# Altium footprint library IPC-7355 QFP_Sq_80P_Side_L.PcbLib: 5 footprints
Each footprint in its own frame and in the unit in brackets; x right, y up, seen from the top. Pads: shape width x height; smd on the part's side, far side on the other; paste and mask are expansions set on the pad; w line width, h text height; cw(c..) or ccw(c..) is an arc to the next point about the centre after c.
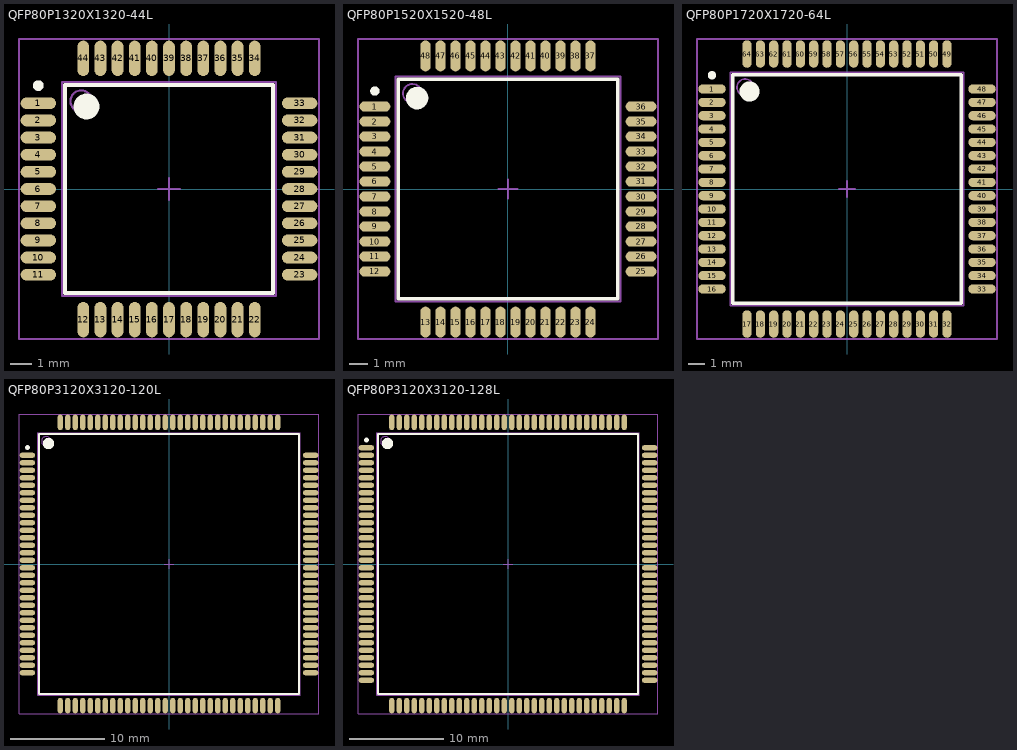
[diagram p0: the footprints below, top view; thin cyan lines are the x and y axes]

## QFP80P1320X1320-44L [mm] "QFP, 44-Leads, Body 10x10mm, Pitch 0.8mm, IPC High Density"
height 2.45
pads (44):
  oval 1.65x0.55 smd: 1(-6.1,4) 2(-6.1,3.2) 3(-6.1,2.4) 4(-6.1,1.6) 5(-6.1,0.8) 6(-6.1,0) 7(-6.1,-0.8) 8(-6.1,-1.6) 9(-6.1,-2.4) 10(-6.1,-3.2) 11(-6.1,-4) 23(6.1,-4) 24(6.1,-3.2) 25(6.1,-2.4) 26(6.1,-1.6) 27(6.1,-0.8) 28(6.1,0) 29(6.1,0.8) 30(6.1,1.6) 31(6.1,2.4) 32(6.1,3.2) 33(6.1,4)
  oval 0.55x1.65 smd: 12(-4,-6.1) 13(-3.2,-6.1) 14(-2.4,-6.1) 15(-1.6,-6.1) 16(-0.8,-6.1) 17(0,-6.1) 18(0.8,-6.1) 19(1.6,-6.1) 20(2.4,-6.1) 21(3.2,-6.1) 22(4,-6.1) 34(4,6.1) 35(3.2,6.1) 36(2.4,6.1) 37(1.6,6.1) 38(0.8,6.1) 39(0,6.1) 40(-0.8,6.1) 41(-1.6,6.1) 42(-2.4,6.1) 43(-3.2,6.1) 44(-4,6.1)
Top Overlay:
  circle w0.6: c-3.85,3.85 r0.3
  circle w0.25: c-6.1,4.825 r0.125
  lines w0.2: -4.85,-4.85 4.85,-4.85 4.85,4.85 -4.85,4.85 -4.85,-4.85
Mechanical 13:
  circle w0.1: c-4.1,4.1 r0.5
  lines w0.1: -5,-5 5,-5 5,5 -5,5 -5,-5
Mechanical 15:
  lines w0.1: -0.5,0 0.5,0 ; 0,-0.5 0,0.5 ; -7,-7 7,-7 7,7 -7,7 -7,-7
3D body: height 2.45, standoff 0, extent -5,-5 5,5

## QFP80P1520X1520-48L [mm] "QFP, 48-Leads, Body 12x12mm, Pitch 0.8mm, IPC High Density"
height 2.45
pads (48):
  oval 1.65x0.55 smd: 1(-7.1,4.4) 2(-7.1,3.6) 3(-7.1,2.8) 4(-7.1,2) 5(-7.1,1.2) 6(-7.1,0.4) 7(-7.1,-0.4) 8(-7.1,-1.2) 9(-7.1,-2) 10(-7.1,-2.8) 11(-7.1,-3.6) 12(-7.1,-4.4) 25(7.1,-4.4) 26(7.1,-3.6) 27(7.1,-2.8) 28(7.1,-2) 29(7.1,-1.2) 30(7.1,-0.4) 31(7.1,0.4) 32(7.1,1.2) 33(7.1,2) 34(7.1,2.8) 35(7.1,3.6) 36(7.1,4.4)
  oval 0.55x1.65 smd: 13(-4.4,-7.1) 14(-3.6,-7.1) 15(-2.8,-7.1) 16(-2,-7.1) 17(-1.2,-7.1) 18(-0.4,-7.1) 19(0.4,-7.1) 20(1.2,-7.1) 21(2,-7.1) 22(2.8,-7.1) 23(3.6,-7.1) 24(4.4,-7.1) 37(4.4,7.1) 38(3.6,7.1) 39(2.8,7.1) 40(2,7.1) 41(1.2,7.1) 42(0.4,7.1) 43(-0.4,7.1) 44(-1.2,7.1) 45(-2,7.1) 46(-2.8,7.1) 47(-3.6,7.1) 48(-4.4,7.1)
Top Overlay:
  circle w0.6: c-4.85,4.85 r0.3
  circle w0.25: c-7.1,5.225 r0.125
  lines w0.2: -5.85,-5.85 5.85,-5.85 5.85,5.85 -5.85,5.85 -5.85,-5.85
Mechanical 13:
  circle w0.1: c-5.1,5.1 r0.5
  lines w0.1: -6,-6 6,-6 6,6 -6,6 -6,-6
Mechanical 15:
  lines w0.1: -0.5,0 0.5,0 ; 0,-0.5 0,0.5 ; -8,-8 8,-8 8,8 -8,8 -8,-8
3D body: height 2.45, standoff 0, extent -6,-6 6,6

## QFP80P1720X1720-64L [mm] "QFP, 64-Leads, Body 14x14mm, Pitch 0.8mm, IPC High Density"
height 2.45
pads (64):
  oval 1.65x0.55 smd: 1(-8.1,6) 2(-8.1,5.2) 3(-8.1,4.4) 4(-8.1,3.6) 5(-8.1,2.8) 6(-8.1,2) 7(-8.1,1.2) 8(-8.1,0.4) 9(-8.1,-0.4) 10(-8.1,-1.2) 11(-8.1,-2) 12(-8.1,-2.8) 13(-8.1,-3.6) 14(-8.1,-4.4) 15(-8.1,-5.2) 16(-8.1,-6) 33(8.1,-6) 34(8.1,-5.2) 35(8.1,-4.4) 36(8.1,-3.6) 37(8.1,-2.8) 38(8.1,-2) 39(8.1,-1.2) 40(8.1,-0.4) 41(8.1,0.4) 42(8.1,1.2) 43(8.1,2) 44(8.1,2.8) 45(8.1,3.6) 46(8.1,4.4) 47(8.1,5.2) 48(8.1,6)
  oval 0.55x1.65 smd: 17(-6,-8.1) 18(-5.2,-8.1) 19(-4.4,-8.1) 20(-3.6,-8.1) 21(-2.8,-8.1) 22(-2,-8.1) 23(-1.2,-8.1) 24(-0.4,-8.1) 25(0.4,-8.1) 26(1.2,-8.1) 27(2,-8.1) 28(2.8,-8.1) 29(3.6,-8.1) 30(4.4,-8.1) 31(5.2,-8.1) 32(6,-8.1) 49(6,8.1) 50(5.2,8.1) 51(4.4,8.1) 52(3.6,8.1) 53(2.8,8.1) 54(2,8.1) 55(1.2,8.1) 56(0.4,8.1) 57(-0.4,8.1) 58(-1.2,8.1) 59(-2,8.1) 60(-2.8,8.1) 61(-3.6,8.1) 62(-4.4,8.1) 63(-5.2,8.1) 64(-6,8.1)
Top Overlay:
  circle w0.6: c-5.85,5.85 r0.3
  circle w0.25: c-8.1,6.825 r0.125
  lines w0.2: -6.85,-6.85 6.85,-6.85 6.85,6.85 -6.85,6.85 -6.85,-6.85
Mechanical 13:
  circle w0.1: c-6.1,6.1 r0.5
  lines w0.1: -7,-7 7,-7 7,7 -7,7 -7,-7
Mechanical 15:
  lines w0.1: -0.5,0 0.5,0 ; 0,-0.5 0,0.5 ; -9,-9 9,-9 9,9 -9,9 -9,-9
3D body: height 2.45, standoff 0, extent -7,-7 7,7

## QFP80P3120X3120-120L [mm] "QFP, 120-Leads, Body 28x28mm, Pitch 0.8mm, IPC High Density"
height 3.75
pads (120):
  oval 1.65x0.55 smd: 1(-15.1,11.6) 2(-15.1,10.8) 3(-15.1,10) 4(-15.1,9.2) 5(-15.1,8.4) 6(-15.1,7.6) 7(-15.1,6.8) 8(-15.1,6) 9(-15.1,5.2) 10(-15.1,4.4) 11(-15.1,3.6) 12(-15.1,2.8) 13(-15.1,2) 14(-15.1,1.2) 15(-15.1,0.4) 16(-15.1,-0.4) 17(-15.1,-1.2) 18(-15.1,-2) 19(-15.1,-2.8) 20(-15.1,-3.6) 21(-15.1,-4.4) 22(-15.1,-5.2) 23(-15.1,-6) 24(-15.1,-6.8) 25(-15.1,-7.6) 26(-15.1,-8.4) 27(-15.1,-9.2) 28(-15.1,-10) 29(-15.1,-10.8) 30(-15.1,-11.6) 61(15.1,-11.6) 62(15.1,-10.8) 63(15.1,-10) 64(15.1,-9.2) 65(15.1,-8.4) 66(15.1,-7.6) 67(15.1,-6.8) 68(15.1,-6) 69(15.1,-5.2) 70(15.1,-4.4) 71(15.1,-3.6) 72(15.1,-2.8) 73(15.1,-2) 74(15.1,-1.2) 75(15.1,-0.4) 76(15.1,0.4) 77(15.1,1.2) 78(15.1,2) 79(15.1,2.8) 80(15.1,3.6) 81(15.1,4.4) 82(15.1,5.2) 83(15.1,6) 84(15.1,6.8) 85(15.1,7.6) 86(15.1,8.4) 87(15.1,9.2) 88(15.1,10) 89(15.1,10.8) 90(15.1,11.6)
  oval 0.55x1.65 smd: 31(-11.6,-15.1) 32(-10.8,-15.1) 33(-10,-15.1) 34(-9.2,-15.1) 35(-8.4,-15.1) 36(-7.6,-15.1) 37(-6.8,-15.1) 38(-6,-15.1) 39(-5.2,-15.1) 40(-4.4,-15.1) 41(-3.6,-15.1) 42(-2.8,-15.1) 43(-2,-15.1) 44(-1.2,-15.1) 45(-0.4,-15.1) 46(0.4,-15.1) 47(1.2,-15.1) 48(2,-15.1) 49(2.8,-15.1) 50(3.6,-15.1) 51(4.4,-15.1) 52(5.2,-15.1) 53(6,-15.1) 54(6.8,-15.1) 55(7.6,-15.1) 56(8.4,-15.1) 57(9.2,-15.1) 58(10,-15.1) 59(10.8,-15.1) 60(11.6,-15.1) 91(11.6,15.1) 92(10.8,15.1) 93(10,15.1) 94(9.2,15.1) 95(8.4,15.1) 96(7.6,15.1) 97(6.8,15.1) 98(6,15.1) 99(5.2,15.1) 100(4.4,15.1) 101(3.6,15.1) 102(2.8,15.1) 103(2,15.1) 104(1.2,15.1) 105(0.4,15.1) 106(-0.4,15.1) 107(-1.2,15.1) 108(-2,15.1) 109(-2.8,15.1) 110(-3.6,15.1) 111(-4.4,15.1) 112(-5.2,15.1) 113(-6,15.1) 114(-6.8,15.1) 115(-7.6,15.1) 116(-8.4,15.1) 117(-9.2,15.1) 118(-10,15.1) 119(-10.8,15.1) 120(-11.6,15.1)
Top Overlay:
  circle w0.6: c-12.85,12.85 r0.3
  circle w0.25: c-15.1,12.425 r0.125
  lines w0.2: -13.85,-13.85 13.85,-13.85 13.85,13.85 -13.85,13.85 -13.85,-13.85
Mechanical 13:
  circle w0.1: c-13.1,13.1 r0.5
  lines w0.1: -14,-14 14,-14 14,14 -14,14 -14,-14
Mechanical 15:
  lines w0.1: -0.5,0 0.5,0 ; 0,-0.5 0,0.5 ; -16,-16 16,-16 16,16 -16,16 -16,-16
3D body: height 3.75, standoff 0, extent -14,-14 14,14

## QFP80P3120X3120-128L [mm] "QFP, 128-Leads, Body 28x28mm, Pitch 0.8mm, IPC High Density"
height 3.75
pads (128):
  oval 1.65x0.55 smd: 1(-15.1,12.4) 2(-15.1,11.6) 3(-15.1,10.8) 4(-15.1,10) 5(-15.1,9.2) 6(-15.1,8.4) 7(-15.1,7.6) 8(-15.1,6.8) 9(-15.1,6) 10(-15.1,5.2) 11(-15.1,4.4) 12(-15.1,3.6) 13(-15.1,2.8) 14(-15.1,2) 15(-15.1,1.2) 16(-15.1,0.4) 17(-15.1,-0.4) 18(-15.1,-1.2) 19(-15.1,-2) 20(-15.1,-2.8) 21(-15.1,-3.6) 22(-15.1,-4.4) 23(-15.1,-5.2) 24(-15.1,-6) 25(-15.1,-6.8) 26(-15.1,-7.6) 27(-15.1,-8.4) 28(-15.1,-9.2) 29(-15.1,-10) 30(-15.1,-10.8) 31(-15.1,-11.6) 32(-15.1,-12.4) 65(15.1,-12.4) 66(15.1,-11.6) 67(15.1,-10.8) 68(15.1,-10) 69(15.1,-9.2) 70(15.1,-8.4) 71(15.1,-7.6) 72(15.1,-6.8) 73(15.1,-6) 74(15.1,-5.2) 75(15.1,-4.4) 76(15.1,-3.6) 77(15.1,-2.8) 78(15.1,-2) 79(15.1,-1.2) 80(15.1,-0.4) 81(15.1,0.4) 82(15.1,1.2) 83(15.1,2) 84(15.1,2.8) 85(15.1,3.6) 86(15.1,4.4) 87(15.1,5.2) 88(15.1,6) 89(15.1,6.8) 90(15.1,7.6) 91(15.1,8.4) 92(15.1,9.2) 93(15.1,10) 94(15.1,10.8) 95(15.1,11.6) 96(15.1,12.4)
  oval 0.55x1.65 smd: 33(-12.4,-15.1) 34(-11.6,-15.1) 35(-10.8,-15.1) 36(-10,-15.1) 37(-9.2,-15.1) 38(-8.4,-15.1) 39(-7.6,-15.1) 40(-6.8,-15.1) 41(-6,-15.1) 42(-5.2,-15.1) 43(-4.4,-15.1) 44(-3.6,-15.1) 45(-2.8,-15.1) 46(-2,-15.1) 47(-1.2,-15.1) 48(-0.4,-15.1) 49(0.4,-15.1) 50(1.2,-15.1) 51(2,-15.1) 52(2.8,-15.1) 53(3.6,-15.1) 54(4.4,-15.1) 55(5.2,-15.1) 56(6,-15.1) 57(6.8,-15.1) 58(7.6,-15.1) 59(8.4,-15.1) 60(9.2,-15.1) 61(10,-15.1) 62(10.8,-15.1) 63(11.6,-15.1) 64(12.4,-15.1) 97(12.4,15.1) 98(11.6,15.1) 99(10.8,15.1) 100(10,15.1) 101(9.2,15.1) 102(8.4,15.1) 103(7.6,15.1) 104(6.8,15.1) 105(6,15.1) 106(5.2,15.1) 107(4.4,15.1) 108(3.6,15.1) 109(2.8,15.1) 110(2,15.1) 111(1.2,15.1) 112(0.4,15.1) 113(-0.4,15.1) 114(-1.2,15.1) 115(-2,15.1) 116(-2.8,15.1) 117(-3.6,15.1) 118(-4.4,15.1) 119(-5.2,15.1) 120(-6,15.1) 121(-6.8,15.1) 122(-7.6,15.1) 123(-8.4,15.1) 124(-9.2,15.1) 125(-10,15.1) 126(-10.8,15.1) 127(-11.6,15.1) 128(-12.4,15.1)
Top Overlay:
  circle w0.6: c-12.85,12.85 r0.3
  circle w0.25: c-15.1,13.225 r0.125
  lines w0.2: -13.85,-13.85 13.85,-13.85 13.85,13.85 -13.85,13.85 -13.85,-13.85
Mechanical 13:
  circle w0.1: c-13.1,13.1 r0.5
  lines w0.1: -14,-14 14,-14 14,14 -14,14 -14,-14
Mechanical 15:
  lines w0.1: -0.5,0 0.5,0 ; 0,-0.5 0,0.5 ; -16,-16 16,-16 16,16 -16,16 -16,-16
3D body: height 3.75, standoff 0, extent -14,-14 14,14